# EAGLE library part IR155-3203 (library SAE_2019)
IR155-3203 Bender - Insulation monitoring device (IMD) for unearthed DC drive systems (IT systems) in electric vehicles
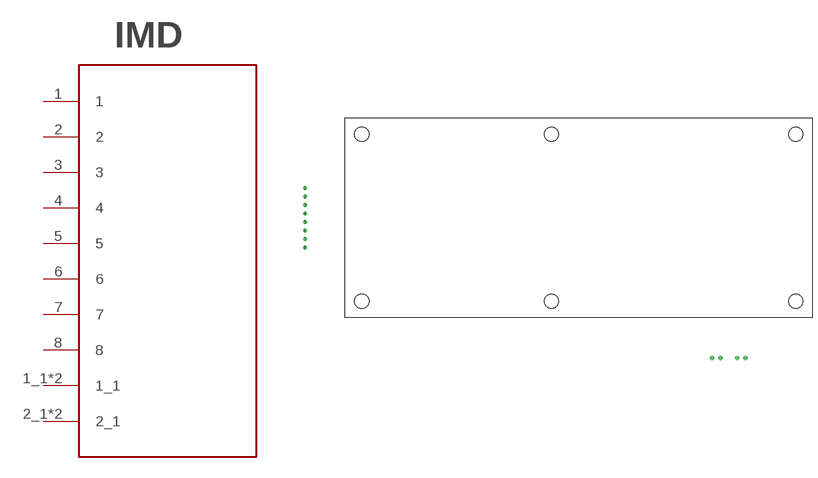
[diagram p0: symbol with the pads of IR155-3203; footprint IR155-3203]

Designator prefix IMD

## IR155-3203  [IR155-3203]
1  1  pwr
1_1  1_1  in
1_2  1_1  in
2  2  pwr
2_1  2_1  in
2_2  2_1  in
3  3  pwr
4  4  pwr
5  5  out
6  6  out
7  7  nc
8  8  out

## Footprint IR155-3203 (pad centres in mm)
IMD 155-3203 Bender with 2.54 headers
drill 0.8: 1 -82,8.89; 1_1 39.92,-42; 1_2 42.46,-42; 2 -82,6.35; 2_1 47.46,-42; 2_2 50,-42; 3 -82,3.81; 4 -82,1.27; 5 -82,-1.27; 6 -82,-3.81; 7 -82,-6.35; 8 -82,-8.89
hole 4.2 at -65,25
hole 4.2 at -65,-25
hole 4.2 at 65,25
hole 4.2 at 65,-25
hole 4.2 at -8.25,25
hole 4.2 at -8.25,-25